# EAGLE library part HCPL772* (library optocoupler_ps)
40 ns Propagation Delay, CMOS Optocoupler *Pin 3 is the anode of the internal LED and must be left unconnected for guaranteed data sheet perfomance. Pin 7 is not connected internally. Source: HCPL7721.pdf
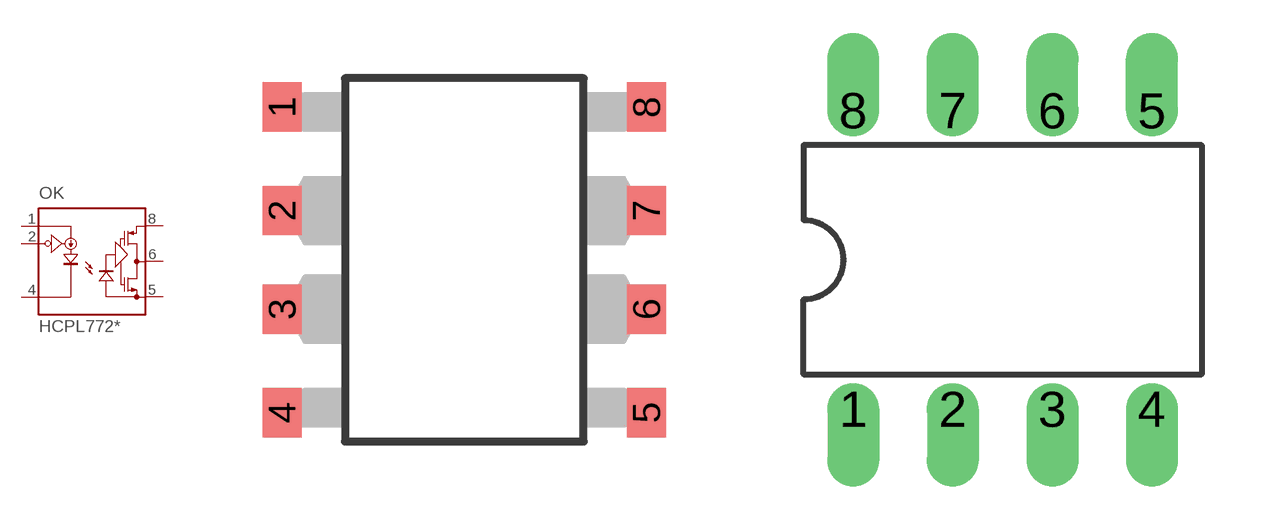
[diagram p39: symbol with the pads of SO8-GW300; footprints SO8-GW300, DIL08]

Designator prefix OK

## HCPL7720#300 (MF: AGILENT TECHNOLOGIES; MPN: HCPL-7720-300E; OC_FARNELL: 1085042; OC_NEWARK: 31K7057), HCPL7721#300 (MF: AGILENT TECHNOLOGIES; MPN: HCPL-7721-300E; OC_FARNELL: 1085043; OC_NEWARK: 31K7059)  [SO8-GW300]
1  VDD1  pas
2  VI  in
4  GND1  pas
5  GND2  pas
6  VO  pas
8  VDD2  pas

## HCPL7720 (MF: AGILENT TECHNOLOGIES; MPN: HCPL-7720; OC_FARNELL: 143236; OC_NEWARK: 83F5122), HCPL7721 (MF: AGILENT TECHNOLOGIES; MPN: HCPL-7721; OC_FARNELL: 143248; OC_NEWARK: 83F5124)  [DIL08]
Pads as for SO8-GW300

## HCPL7720SO8 (MF: AGILENT TECHNOLOGIES; MPN: HCPL-7720-300E; OC_FARNELL: 1085042; OC_NEWARK: 31K7057), HCPL7721SO8 (MF: AGILENT TECHNOLOGIES; MPN: HCPL-7721-300E; OC_FARNELL: 1085043; OC_NEWARK: 31K7059)  [SO-8]
Pads as for SO8-GW300

## Footprint SO8-GW300 (pad centres in mm)
HCPL-772X Package witch Gull Wing Surface Mount Option 300 Source: HCPL7221.pdf
smd 1 x 1.27: 1 -4.69,3.937; 2 -4.69,1.27; 3 -4.69,-1.27; 4 -4.69,-3.937; 5 4.69,-3.937; 6 4.69,-1.27; 7 4.69,1.27; 8 4.69,3.937

## Footprint DIL08 (pad centres in mm)
Dual In Line Package
drill 0.813 offset: 1 -3.81,-3.81; 2 -1.27,-3.81; 3 1.27,-3.81; 4 3.81,-3.81; 5 3.81,3.81; 6 1.27,3.81; 7 -1.27,3.81; 8 -3.81,3.81

## Footprint SO-8 (pad centres in mm)
Small Outline SO-8 Packages Source: HCPL7221.pdf
smd 0.7 x 0.45: 1 -2.79,1.905; 2 -2.79,0.635; 3 -2.79,-0.635; 4 -2.79,-1.905; 5 2.79,-1.905; 6 2.79,-0.635; 7 2.79,0.635; 8 2.79,1.905